# EAGLE library part ADP7142 (library 74xx)
ADP7142 edit this description Auto generated by make-symbol-device-package-bsdl.ulp Rev. 44 Source: ADP7142.txt
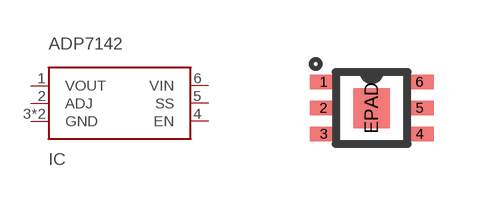
[diagram p1: symbol with the pads of LFCSP-6-2X2; footprint LFCSP-6-2X2]

Designator prefix IC

## ADP7142  [LFCSP-6-2X2]
1  VOUT  pwr
2  ADJ
3  GND  pwr
4  EN  pwr
5  SS
6  VIN  pwr
EPAD  GND  pwr

## Footprint LFCSP-6-2X2 (pad centres in mm)
LFCSP-6-2X2 Auto generated by make-symbol-device-package-bsdl.ulp Rev. 44
smd 0.7 x 0.37: 1 -1.2,0.65; 2 -1.2,0; 3 -1.2,-0.65; 4 1.2,-0.65; 5 1.2,0; 6 1.2,0.65
smd 0.9 x 1: EPAD 0,0